# Altium schematic symbol library Pololu G2 High-Power Motor Driver 24v21.SchLib: 1 symbol
Pins are listed as number, name and electrical type; pins without a type are passive.

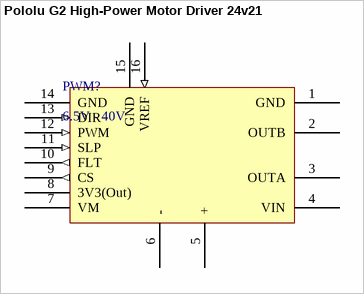
[diagram p0: symbol Pololu G2 High-Power Motor Driver 24v21]

## Pololu G2 High-Power Motor Driver 24v21
designator PWM?, comment 6.5V - 40V
This discrete MOSFET H-bridge motor driver enables bidirectional control of one high-power DC brushed motor. The small 1.3″ × 0.8″ board supports a wide 6.5 V to 40 V voltage range and is efficient enough to deliver a continuous 21 A without a heat sink. Additional features of this second-generation (G2) driver include reverse-voltage protection along with basic current sensing and current limiting functionality.; Part_Number: 2995; ComponentLink2Description: Purchase_URL; ComponentLink2URL: https://www.pololu.com/product/2995; ComponentLink3Description: Datasheet_Link; ComponentLink3URL: https://www.pololu.com/product/2995
footprint Pololu_G2_Driver_24v21 (Pololu G2 High-Power Motor Driver 24v21)
pins: 1 GND (power) "Ground", 1a GND, 1b GND, 2 OUTB (power) "Motor 24v Out", 2a OUTB, 2b OUTB, 3 OUTA, 3a OUTA, 3b OUTA (power) "Motor 24v Out", 4 VIN (power) "24V Input", 4a VIN, 4b VIN, 5 + (power) "For Power Supply Capacitor", 6 - (power) "For Power Supply Capacitor", 7 VM (power) "Reverse Protected Power Output", 8 3V3(Out) (power) "regulated 3.3 V output", 9 CS (out) "Current Sense", 10 FLT (out) "Fault Indicator (Open Drain)", 11 SLP (in) "Inverted Sleep Input", 12 PWM (in) "PWM Input", 13 DIR (in) "Direction Input", 14 GND (power) "Ground", 15 GND (power) "Ground", 16 VREF (in) "Reference voltage input"